# Altium footprint library MICROFONES.PcbLib: 3 footprints
Each footprint in its own frame and in the unit in brackets; x right, y up, seen from the top. Pads: shape width x height; smd on the part's side, far side on the other; paste and mask are expansions set on the pad; w line width, h text height; cw(c..) or ccw(c..) is an arc to the next point about the centre after c.
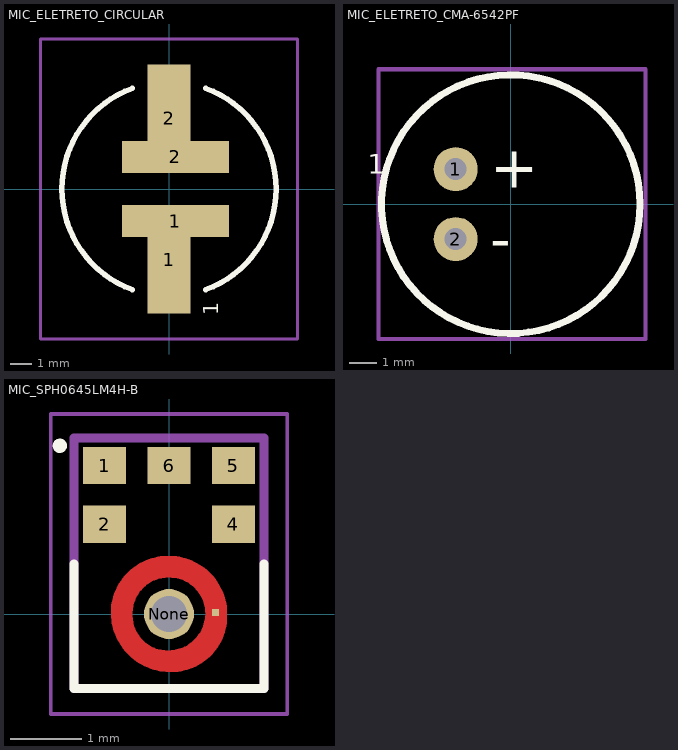
[diagram p0: the footprints below, top view; thin cyan lines are the x and y axes]

## MIC_ELETRETO_CIRCULAR [mm] "PART NUMBER: CMA-6542TF-K / electret condenser microphone / sensitivity (S) -42 ±2 dB / operating voltage 1.5 V dc (standard), 10 V dc (max.) / output impedance (Zout) 1.5 K? / operating frequency (f) 100 ~ 20,000 Hz / signal to noise ratio (S/N) 58 dBA"
height 7
pads (4):
  rect 2x5 smd: 1(0,-3.3) 2(0,3.3)
  rect 5x1.5 smd: 1(0.3,-1.5) 2(0.3,1.5)
Top Overlay:
  lines w0.254: -1.71,-4.698 cw(c0,0) -1.71,4.698 ; 1.71,-4.698 ccw(c0,0) 1.71,4.698
  text "1" at 2.3,-5.9 h0.7
Mechanical 1:
  pour cut-out: 5,6
Mechanical 16:
  lines w0.15: -6,-7 -6,7 6,7 6,-7 -6,-7
3D body "CUI_DEVICES_CMA-6542TF-K.step": height 8.7, standoff 1.8, extent -4.85,-4.85 4.85,4.85

## MIC_ELETRETO_CMA-6542PF [mm] "MICROPHONE COND ANALOG OMNI PTH"
height 7
pads (2):
  round 1.6 hole 0.8: 1(-2,1.27) 2(-2,-1.27)
Top Overlay:
  circle w0.254: c0,0 r4.7
  text "-" at -0.746,-2.008 h1.52
  text "+" at -0.746,0.6 h1.52
  text "1" at -5.2,1.1 h0.7
Mechanical 1:
  pour cut-out: 5,6
Mechanical 16:
  lines w0.15: -4.8,-4.9 4.9,-4.9 4.9,4.9 -4.8,4.9 -4.8,-4.9
3D body "CUI_DEVICES_CMA-6542PF.step": height 7.2, standoff -4, extent -4.85,-4.85 4.85,4.85

## MIC_SPH0645LM4H-B [mm] "I2S Output Digital Microphone ~ 20Hz ~ 10kHz Digital, Microfone I2S MEMS _Silicone_ 1,62V ~ 3,6V Omnidirecional _-26dB Â± 3dB @ 94dB SPL_ Almofadas de solda"
pads (7):
  rect 0.6x0.522 smd: 1(-0.9,2.074) 2(-0.9,1.252) 4(0.9,1.252) 5(0.9,2.074) 6(0,2.074)
  rect 0.1x0.1 smd: 3(0.65,0.02)
  round 0.7 hole 0.5 unplated: None(0,0)
Top Layer:
  region: 250 vertices and 0 holes, not listed, extent -0.81,-0.81 0.81,0.81
Top Overlay:
  circle w0.1: c-1.525,2.35 r0.05
  lines w0.127: -1.325,0.7 -1.325,-1.04 1.325,-1.04 1.325,0.7
Top Paste:
  region: -0.375,0.53 -0.28,0.435 -0.23,0.46 -0.175,0.485 -0.12,0.5 -0.06,0.51 0,0.514 0.12,0.5 0.225,0.462 0.283,0.426 0.385,0.525 0.5,0.64 0.41,0.7 0.31,0.75 0.23,0.78 0.14,0.8 0,0.81 -0.16,0.796 -0.31,0.75 -0.415,0.7 -0.49,0.645
  region: 0.53,0.385 0.425,0.28 0.46,0.23 0.5,0.12 0.514,0 0.5,-0.12 0.462,-0.225 0.421,-0.283 0.52,-0.38 0.64,-0.5 0.705,-0.405 0.75,-0.31 0.78,-0.23 0.8,-0.14 0.81,-0.06 0.81,0.065 0.796,0.16 0.78,0.235 0.75,0.31 0.705,0.405 0.64,0.5
  region: 0.38,-0.53 0.28,-0.425 0.23,-0.46 0.12,-0.5 0,-0.514 -0.12,-0.5 -0.225,-0.462 -0.288,-0.426 -0.385,-0.525 -0.5,-0.64 -0.405,-0.705 -0.31,-0.75 -0.22,-0.78 -0.14,-0.8 0,-0.81 0.16,-0.796 0.31,-0.75 0.425,-0.69 0.495,-0.645
  region: -0.53,-0.385 -0.43,-0.285 -0.465,-0.23 -0.505,-0.12 -0.51,-0.12 -0.505,-0.11 -0.52,-0.005 -0.524,0.005 -0.52,0.005 -0.505,0.125 -0.462,0.225 -0.426,0.293 -0.525,0.39 -0.635,0.505 -0.7,0.41 -0.75,0.31 -0.78,0.22 -0.8,0.14 -0.81,0 -0.796,-0.16 -0.75,-0.31 -0.705,-0.4 -0.64,-0.5
Top Solder:
  circle w0.912: c0,0 r0.456
Mechanical 4:
  lines w0.127: -1.325,-1.04 -1.325,2.46 ; -1.325,-1.04 1.325,-1.04 ; -1.325,-1.04 -1.325,2.46 ; -1.325,-1.04 1.325,-1.04 ; -1.325,2.46 1.325,2.46 ; -1.325,2.46 1.325,2.46 ; 1.325,-1.04 1.325,2.46 ; 1.325,-1.04 1.325,2.46
Mechanical 16:
  lines w0.05: -1.651,-1.397 -1.651,2.794 1.651,2.794 1.651,-1.397 -1.651,-1.397
3D body "SPH0645LM4H-B - STEP.STEP": height 1.13, standoff 0.05, extent -1.325,-1.025 1.325,2.475